# EAGLE library part MAX3051EKA (library spin)
+3.3V, 1Mbps, Low-Supply-Current CAN Transceiver
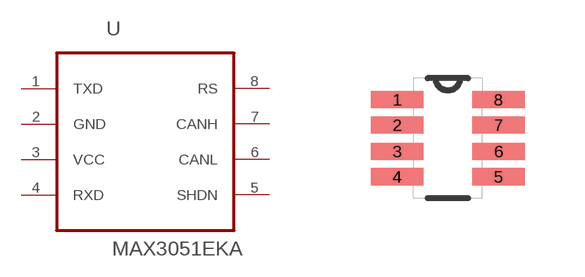
[diagram p2: symbol with the pads of SOT65P280X145-8N; footprint SOT65P280X145-8N]

Designator prefix U

## MAX3051EKA (MPN: MAX3051EKA; OC_FARNELL: -; OC_NEWARK: 07R7042; PACKAGE: SOT-23-8; SUPPLIER: Maxim)  [SOT65P280X145-8N]
1  TXD  in
2  GND  pas
3  VCC  pwr
4  RXD  out
5  SHDN  in
6  CANL  in
7  CANH  in
8  RS  in

## Footprint SOT65P280X145-8N (pad centres in mm)
smd 1.321 x 0.432: 1 -1.27,0.965; 2 -1.27,0.33; 3 -1.27,-0.33; 4 -1.27,-0.965; 5 1.27,-0.965; 6 1.27,-0.33; 7 1.27,0.33; 8 1.27,0.965